# EAGLE library part CON_01X31 (library PP_Connectors)
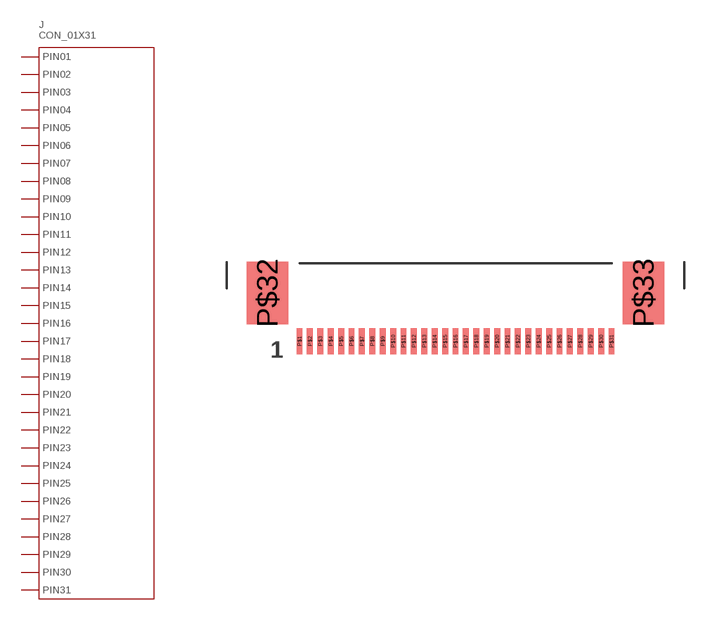
[diagram p14: symbol with the pads of ER-CON31HT-1; footprint ER-CON31HT-1]

Designator prefix J

## CON_01X31_ER-CON31HT-1 (POPULATE: 1)  [ER-CON31HT-1]
P$1  PIN1
P$2  PIN2
P$3  PIN3
P$4  PIN4
P$5  PIN5
P$6  PIN6
P$7  PIN7
P$8  PIN8
P$9  PIN9
P$10  PIN10
P$11  PIN11
P$12  PIN12
P$13  PIN13
P$14  PIN14
P$15  PIN15
P$16  PIN16
P$17  PIN17
P$18  PIN18
P$19  PIN19
P$20  PIN20
P$21  PIN21
P$22  PIN22
P$23  PIN23
P$24  PIN24
P$25  PIN25
P$26  PIN26
P$27  PIN27
P$28  PIN28
P$29  PIN29
P$30  PIN30
P$31  PIN31

## Footprint ER-CON31HT-1 (pad centres in mm)
http://www.buydisplay.com/download/connector/ER-CON31HT-1.pdf
smd 0.28 x 1.25: P$1 -7.5,0; P$2 -7,0; P$3 -6.5,0; P$4 -6,0; P$5 -5.5,0; P$6 -5,0; P$7 -4.5,0; P$8 -4,0; P$9 -3.5,0; P$10 -3,0; P$11 -2.5,0; P$12 -2,0; P$13 -1.5,0; P$14 -1,0; P$15 -0.5,0; P$16 0,0; P$17 0.5,0; P$18 1,0; P$19 1.5,0; P$20 2,0; P$21 2.5,0; P$22 3,0; P$23 3.5,0; P$24 4,0; P$25 4.5,0; P$26 5,0; P$27 5.5,0; P$28 6,0; P$29 6.5,0; P$30 7,0; P$31 7.5,0
smd 2 x 3: P$32 -9.04,2.325; P$33 9.04,2.325